# EAGLE library part 62000621121 (library Wurth_Elektronik2)
WR-PHD 2.00mm Dual Pin Header, 6 Pins=>Code : WR-PHD_Dual_Pin_Header_62000621121 <http://katalog.we-online.de/media/images/eican/WR-PHD_Dual_Pin_Header_6200xx21121.jpg> Details see: http://katalog.we-online.de/en/em/620_0xx_211_21 Created 2014-06-03, Karrer Zheng 2014 (C) Würth Elektronik
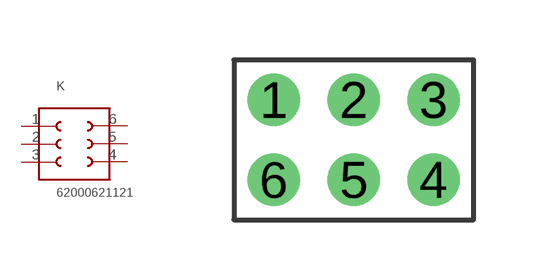
[diagram p233: symbol with the pads of 62000621121; footprint 62000621121]

Designator prefix K

## 62000621121  [62000621121]
1  1  pas
2  2  pas
3  3  pas
4  4  pas
5  5  pas
6  6  pas

## Footprint 62000621121 (pad centres in mm)
WR-PHD 2.00mm Dual Pin Header, 6 Pins
drill 0.8: 1 -2,1; 2 0,1; 3 2,1; 4 2,-1; 5 0,-1; 6 -2,-1